# EAGLE library part ADS1115DGS (library ADS1115DGS)
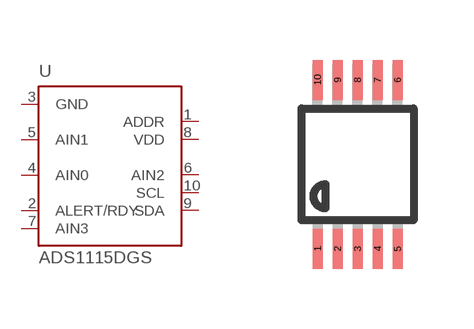
[diagram p150: symbol with the pads of MSOP10; footprint MSOP10]

Designator prefix -

## ADS1115DGS  [MSOP10]
1  ADDR  in
2  ALERT/RDY  pwr
3  GND  pwr
4  AIN0  in
5  AIN1  in
6  AIN2  in
7  AIN3  pwr
8  VDD  out
9  SDA
10  SCL  in

## Footprint MSOP10 (pad centres in mm)
10-Lead Mini Small Outline Package [MSOP] (RM-10) Source: http://www.analog.com/UploadedFiles/Data_Sheets/35641221898805SSM2167_b.pdf COMPLIANT TO JEDEC STANDARDS MO-187BA
smd 0.25 x 1: 1 -1,-2.113; 2 -0.5,-2.113; 3 0,-2.113; 4 0.5,-2.113; 5 1,-2.113; 6 1,2.113; 7 0.5,2.113; 8 0,2.113; 9 -0.5,2.113; 10 -1,2.113